# Altium footprint library PADS_PcbLib.PcbLib: 5 footprints
Each footprint in its own frame and in the unit in brackets; x right, y up, seen from the top. Pads: shape width x height; smd on the part's side, far side on the other; paste and mask are expansions set on the pad; w line width, h text height; cw(c..) or ccw(c..) is an arc to the next point about the centre after c.
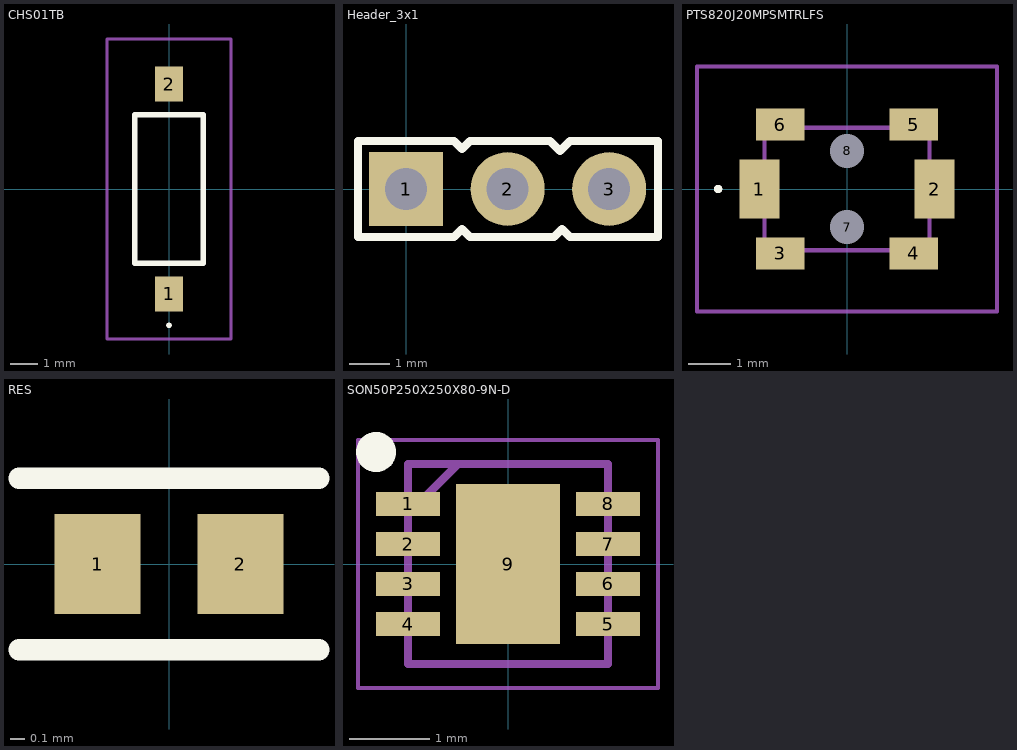
[diagram p0: the footprints below, top view; thin cyan lines are the x and y axes]

## CHS01TB [mm]
pads (2):
  rect 1x1.27 smd: 1(0,-3.81) 2(0,3.81)
Top Overlay:
  lines w0.1: 0,-5 ccw(c0,-4.95) 0,-4.9 ccw(c0,-4.95) 0,-5
  lines w0.2: -1.25,-2.7 1.25,-2.7 1.25,2.7 -1.25,2.7 -1.25,-2.7
Mechanical 15:
  lines w0.1: -1.25,-2.7 1.25,-2.7 1.25,2.7 -1.25,2.7 -1.25,-2.7
Mechanical 20:
  lines w0.1: -2.25,-5.445 2.25,-5.445 2.25,5.445 -2.25,5.445 -2.25,-5.445

## Header_3x1 [mm]
pads (3):
  rect 1.85x1.85 hole 1.05: 1(0,0)
  round 1.85 hole 1.05: 2(2.54,0) 3(5.08,0)
Top Overlay:
  lines w0.2: -1.2,-1.2 -1.2,1.2 1.2,1.2 1.4,1 1.6,1.2 3.6,1.2 3.85,0.95 4.1,1.2 6.3,1.2 6.3,-1.2 4.1,-1.2 3.9,-1 3.7,-1.2 1.6,-1.2 1.4,-1 1.2,-1.2 -1.2,-1.2

## PTS820J20MPSMTRLFS [mm]
pads (8):
  rect 0.95x1.4 smd: 1(-2.075,0) 2(2.075,0)
  rect 1.15x0.75 smd: 3(-1.575,-1.525) 4(1.575,-1.525) 5(1.575,1.525) 6(-1.575,1.525)
  round 0.4 hole 0.8 unplated: 7(0,-0.9) 8(0,0.9)
Top Overlay:
  lines w0.1: -3.1,0 ccw(c-3.05,0) -3,0 ccw(c-3.05,0) -3.1,0
Mechanical 15:
  lines w0.1: -1.95,-1.45 -1.95,1.45 1.95,1.45 1.95,-1.45 -1.95,-1.45
Mechanical 20:
  lines w0.1: -3.55,-2.9 -3.55,2.9 3.55,2.9 3.55,-2.9 -3.55,-2.9
3D body "PTS820J20MPSMTRLFS.stp": height 2.05, standoff -0.45, extent -2.25,-1.452 2.25,1.448

## RES [mm] "0402 Resistor Footprint"
pads (2):
  rect 0.6x0.7 smd: 1(-0.5,0) 2(0.5,0)
Top Overlay:
  lines w0.15: -1.05,-0.6 0.1,-0.6 1.05,-0.6 ; -1.05,0.6 0.1,0.6 1.05,0.6

## SON50P250X250X80-9N-D [mm]
pads (9):
  rect 0.8x0.3 smd: 1(-1.25,0.75) 2(-1.25,0.25) 3(-1.25,-0.25) 4(-1.25,-0.75) 5(1.25,-0.75) 6(1.25,-0.25) 7(1.25,0.25) 8(1.25,0.75)
  rect 1.3x2 smd: 9(0,0)
Top Overlay:
  circle w0.25: c-1.65,1.4 r0.125
Mechanical 15:
  lines w0.1: -1.25,0.625 -0.625,1.25 ; -1.25,-1.25 -1.25,1.25 1.25,1.25 1.25,-1.25 -1.25,-1.25
Mechanical 20:
  lines w0.05: -1.875,-1.55 1.875,-1.55 1.875,1.55 -1.875,1.55 -1.875,-1.55
3D body "HDC3020DEFR.stp": height 0.8, standoff 0, extent -1.3,-1.25 1.3,1.25